# Altium footprint library Diversos.PcbLib: 5 footprints
Each footprint in its own frame and in the unit in brackets; x right, y up, seen from the top. Pads: shape width x height; smd on the part's side, far side on the other; paste and mask are expansions set on the pad; w line width, h text height; cw(c..) or ccw(c..) is an arc to the next point about the centre after c.
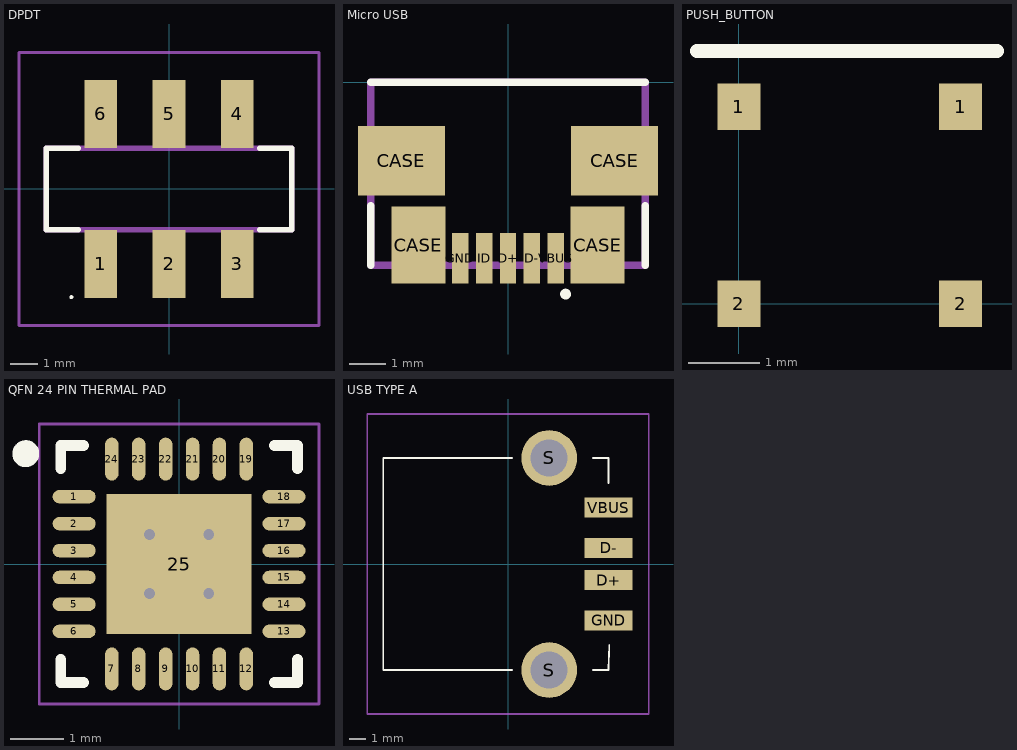
[diagram p0: the footprints below, top view; thin cyan lines are the x and y axes]

## DPDT [mm]
pads (6):
  rect 1.2x2.5 smd: 1(-2.5,-2.75) 2(0,-2.75) 3(2.5,-2.75) 4(2.5,2.75) 5(0,2.75) 6(-2.5,2.75)
Top Overlay:
  lines w0.072: -3.614,-3.968 ccw(c-3.578,-3.968) -3.542,-3.968 ccw(c-3.578,-3.968) -3.614,-3.968
  lines w0.2: -3.323,-1.5 -4.5,-1.5 -4.5,1.5 -3.323,1.5 ; 3.323,-1.5 4.5,-1.5 4.5,1.5 3.323,1.5
Mechanical 13:
  lines w0.2: -4.5,-1.5 4.5,-1.5 4.5,1.5 -4.5,1.5 -4.5,-1.5
Mechanical 15:
  lines w0.1: -5.5,-5.004 5.5,-5.004 5.5,5 -5.5,5 -5.5,-5.004
3D body "JS202011SCQN.stp": height 5.65, standoff -0.2, extent -4.5,-3.5 4.5,3.5

## Micro USB [mm]
pads (9):
  rect 2.375x1.9 smd: CASE(-2.913,-2.15) CASE(2.913,-2.15)
  rect 1.475x2.1 smd: CASE(-2.452,-4.45) CASE(2.452,-4.45)
  rect 0.45x1.38 smd: D+(0,-4.81) D-(0.65,-4.81) GND(-1.3,-4.81) ID(-0.65,-4.81) VBUS(1.3,-4.81)
Top Overlay:
  circle w0.2: c1.572,-5.79 r0.046
  lines w0.2: -3.75,-5 -3.75,-3.373 ; -3.75,0 3.75,0 ; 3.75,-5 3.75,-3.373
Mechanical 13:
  lines w0.2: -3.75,-5 3.75,-5 3.75,0 -3.75,0 -3.75,-5
3D body "47346-0001.stp": height 2.66, standoff -0.05, extent -3.9,-5 3.9,0

## PUSH_BUTTON [mm]
pads (4):
  rect 0.6x0.65 smd: 1(0,2.75) 1(3.1,2.75) 2(0,0) 2(3.1,0)
Top Overlay:
  lines w0.2: -0.584,3.531 3.607,3.531
3D body "PTS540JK035SMTRLFS.stp": height 0.3, standoff -0.05, extent -0.291,-0.453 3.409,3.247

## QFN 24 PIN THERMAL PAD [mm] "QFN, 24-Leads, Body 4,00x4,00mm, Pitch 0,50mm, Thermal Pad 2,70x2,60mm, IPC Medium Density"
height 0.9
pads (25):
  oval 0.8x0.25 smd: 1(-1.95,1.25) 2(-1.95,0.75) 3(-1.95,0.25) 4(-1.95,-0.25) 5(-1.95,-0.75) 6(-1.95,-1.25) 13(1.95,-1.25) 14(1.95,-0.75) 15(1.95,-0.25) 16(1.95,0.25) 17(1.95,0.75) 18(1.95,1.25)
  oval 0.25x0.8 smd: 7(-1.25,-1.95) 8(-0.75,-1.95) 9(-0.25,-1.95) 10(0.25,-1.95) 11(0.75,-1.95) 12(1.25,-1.95) 19(1.25,1.95) 20(0.75,1.95) 21(0.25,1.95) 22(-0.25,1.95) 23(-0.75,1.95) 24(-1.25,1.95)
  rect 2.7x2.6 smd: 25(0,0)
via 0.55,-0.55 diameter 0.5 hole 0.2
via -0.55,-0.55 diameter 0.5 hole 0.2
via 0.55,0.55 diameter 0.5 hole 0.2
via -0.55,0.55 diameter 0.5 hole 0.2
Top Overlay:
  circle w0.25: c-2.85,2.05 r0.125
  lines w0.2: -2.2,-1.775 -2.2,-2.2 -1.775,-2.2 ; -2.2,1.775 -2.2,2.2 -1.775,2.2 ; 1.775,-2.2 2.2,-2.2 2.2,-1.775 ; 1.775,2.2 2.2,2.2 2.2,1.775
Mechanical 15:
  lines w0.05: -2.6,-2.6 2.6,-2.6 2.6,2.6 -2.6,2.6 -2.6,-2.6
  lines w0.1: -0.5,0 0.5,0 ; 0,-0.5 0,0.5
3D body "User Library-mpu-6050_qfn-24.STEP": height 0.88, standoff -0.02, extent -2.007,-2.008 2.033,2.032

## USB TYPE A [mm]
pads (6):
  rect 3x1.25 smd: D+(6.23,-1) D-(6.23,1) GND(6.23,-3.5) VBUS(6.23,3.5)
  round 3.45 hole 2.3: S(2.55,-6.57) S(2.55,6.57)
Top Overlay:
  lines w0.1: 0.27,-6.57 -7.73,-6.57 -7.73,6.57 0.27,6.57 ; 5.27,-6.57 6.23,-6.57 6.27,-5 ; 5.27,6.57 6.23,6.57 6.23,5
Mechanical 15:
  lines w0.1: -8.73,-9.295 -8.73,9.295 8.73,9.295 8.73,-9.295 -8.73,-9.295
3D body "usb_2_a_smd.stp": height 7.54, standoff -3.45, extent -7.804,-7.874 7.296,7.926